# Altium schematic symbol library CMT-1285C-035.SchLib: 1 symbol
Pins are listed as number, name and electrical type; pins without a type are passive.

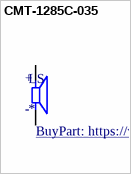
[diagram p0: symbol CMT-1285C-035]

## CMT-1285C-035
designator LS
12 mm, 3.5 Vo-p, 91 dB, Through Hole, Magnetic Audio Transducer Buzzer; MF: CUI Devices; MP: CMT-1285C-035; Availability: Good; SnapEDA_Link: https://www.snapeda.com/parts/CMT-1285C-035/CUI%20Devices/view-part/2772240/?ref=snap; Arrow_Electronics-Purchase-URL: https://snapeda.com/shop?store=Arrow+Electronics&id=2772240; Price: None; Package: TO-220 CUI Inc.; Mouser-Purchase-URL: https://snapeda.com/shop?store=Mouser&id=2772240; Value: *; CUI_purchase_URL: https://www.cuidevices.com/product/audio/buzzers/audio-transducers/cmt-1285c-035?utm_source=snapeda.com&utm_medium=referral&utm_campaign=snapedaBOM; BuyPart: https://www.snapeda.com/parts/CMT-1285C-035/CUI%20Devices/view-part/2772240/?ref=eda
footprint CUI_CMT-1285C-035
pins: N, P
text: +; -